# Altium footprint library PcbLib1.PcbLib: 16 footprints
Each footprint in its own frame and in the unit in brackets; x right, y up, seen from the top. Pads: shape width x height; smd on the part's side, far side on the other; paste and mask are expansions set on the pad; w line width, h text height; cw(c..) or ccw(c..) is an arc to the next point about the centre after c.
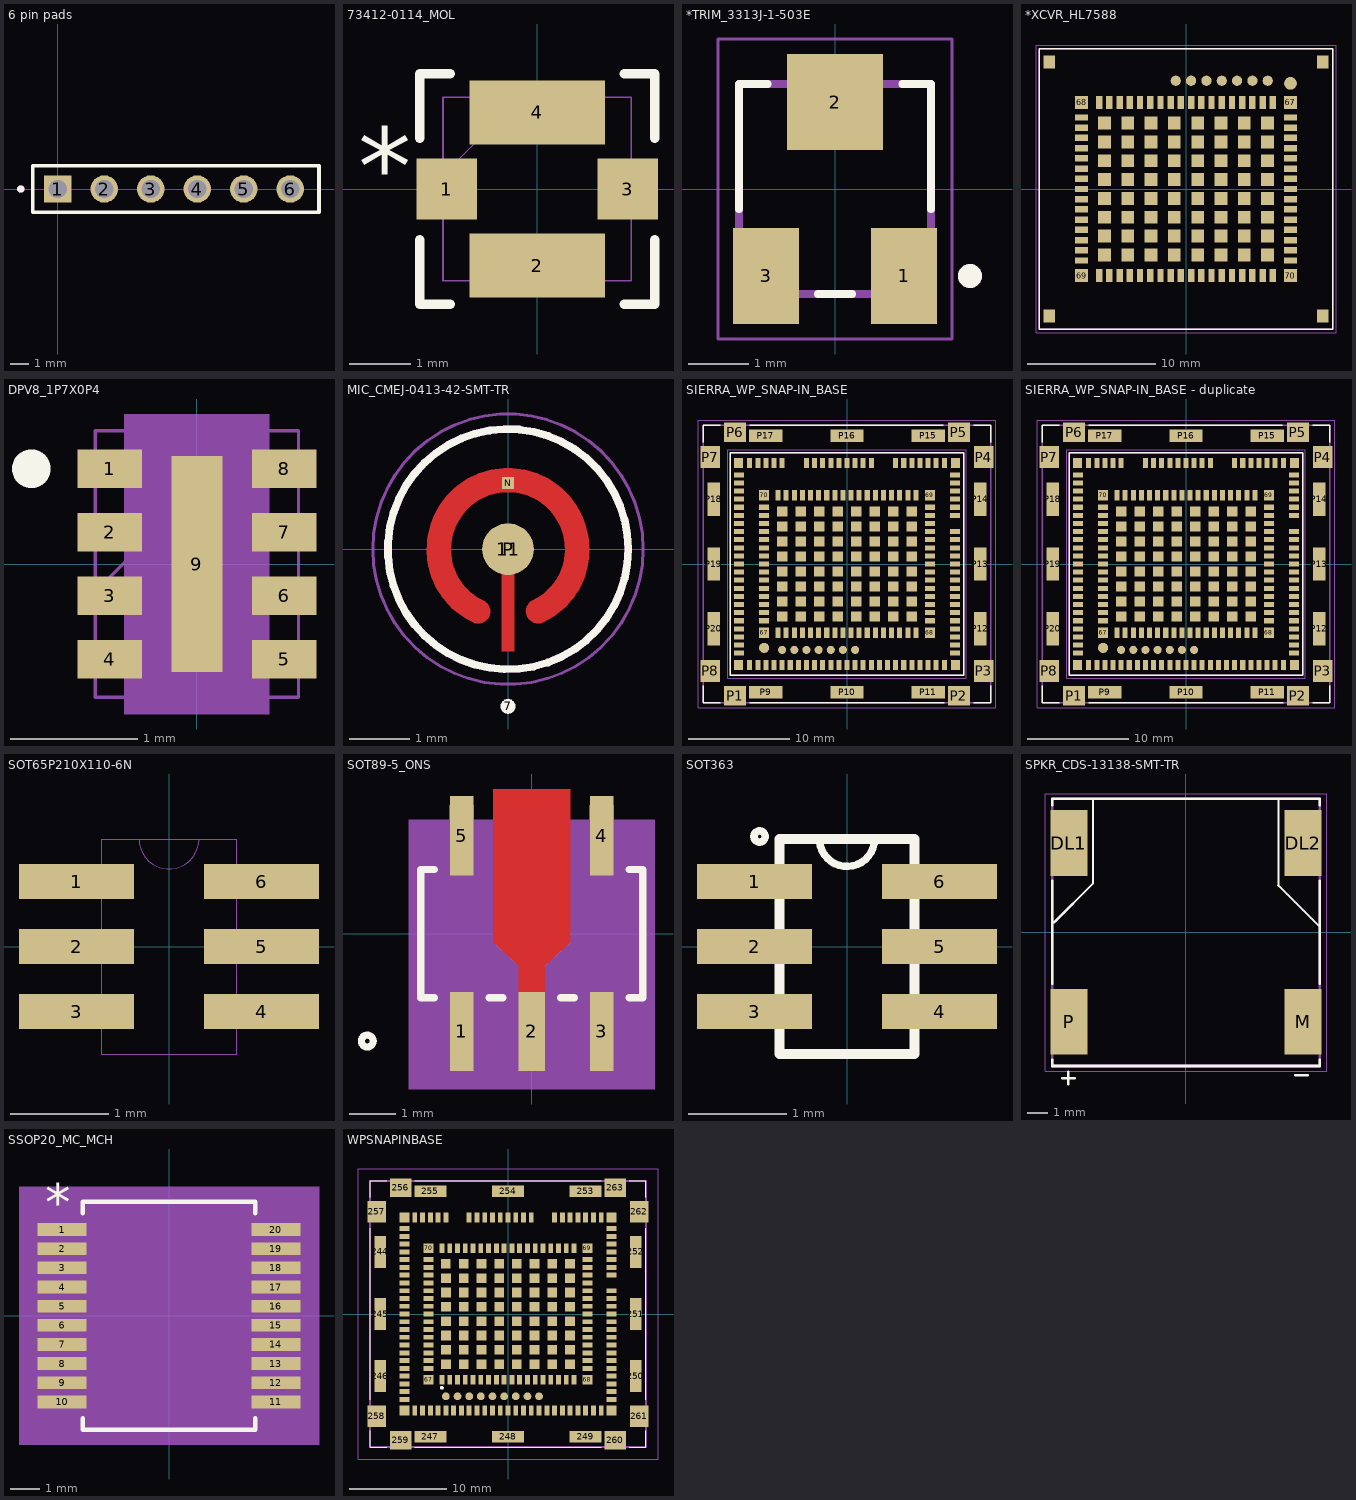
[diagram p0: the footprints below, top view; thin cyan lines are the x and y axes]

## 6 pin pads [mm]
pads (6):
  rect 1.5x1.5 hole 1: 1(0,0)
  round 1.5 hole 1: 2(2.54,0) 3(5.08,0) 4(7.62,0) 5(10.16,0) 6(12.7,0)
Top Overlay:
  circle w0.2: c-2.022,0 r0.1
  lines w0.2: -1.372,-1.27 14.275,-1.27 14.275,1.27 -1.372,1.27 -1.372,-1.27
Bottom Overlay:
  circle w0.2: c-2.022,0 r0.1
  lines w0.2: -1.372,-1.27 14.275,-1.27 14.275,1.27 -1.372,1.27 -1.372,-1.27
Mechanical 13:
  circle w0.2: c-2.022,0 r0.1
  lines w0.1: -1.372,-1.27 -1.372,1.27 14.275,1.27 14.275,-1.27 -1.372,-1.27
3D body "c-5-146280-2-d-3d.stp": height 8.18, standoff -3, extent 9.093,-1.168 13.767,1.168
3D body "c-5-146280-2-d-3d.stp": height 8.18, standoff -3, extent 4.013,-1.168 8.687,1.168
3D body "c-5-146280-2-d-3d.stp": height 8.18, standoff -3, extent -1.067,-1.168 3.607,1.168

## 73412-0114_MOL [mil]
pads (4):
  rect 39x39 smd paste-19.5 mask+0: 1(-58.07,0) 3(58.07,0)
  rect 87x41 smd paste+0 mask+0: 2(0,-49.21) 4(0,49.21)
Top Overlay:
  lines w6: -75.5,-32.6 -75.5,-74 -55.88,-74 ; -75.5,32.6 -75.5,74 -55.88,74 ; 55.88,-74 75.5,-74 75.5,-32.6 ; 55.88,74 75.5,74 75.5,32.6
  text "*" at -115.07,-10 h50
Mechanical 13:
  lines w1: -60.5,9 -10.5,59 ; -60.5,-59 60.5,-59 60.5,59 -60.5,59 -60.5,-59
  text "*" at -41.07,-25 h50
3D body: height 10, standoff 0, extent 0,0 10,10
3D body "A-1JB--3DModel-STEP-56544.STEP": height 49.21, standoff 0, extent -61.02,-59 61.02,59.11

## *TRIM_3313J-1-503E [mm]
pads (3):
  rect 1.1x1.6 smd: 1(1.15,-1.45) 3(-1.15,-1.45)
  rect 1.6x1.6 smd: 2(0,1.45)
Top Overlay:
  circle w0.2: c2.25,-1.45 r0.1
  lines w0.127: -1.6,-0.336 -1.6,1.75 -1.12,1.75 ; -0.286,-1.75 0.286,-1.75 ; 1.12,1.75 1.6,1.75 1.6,-0.336
Mechanical 4:
  circle w0.2: c2.25,-1.45 r0.1
  circle w0.2: c2.25,-1.45 r0.1
  lines w0.127: -1.6,-1.75 -1.6,1.75 ; -1.6,-1.75 1.6,-1.75 ; -1.6,-1.75 -1.6,1.75 ; -1.6,-1.75 1.6,-1.75 ; -1.6,1.75 1.6,1.75 ; -1.6,1.75 1.6,1.75 ; 1.6,-1.75 1.6,1.75 ; 1.6,-1.75 1.6,1.75
Mechanical 16:
  lines w0.05: -1.95,-2.5 1.95,-2.5 1.95,2.5 -1.95,2.5 -1.95,-2.5
3D body "trimmer.stp": height -0.41, standoff -2.54, extent -1.651,-1.778 1.651,1.727

## *XCVR_HL7588 [mm]
pads (146):
  rect 0.5x1 smd: 1(6.8,6.78) 2(6,6.78) 3(5.2,6.78) 4(4.4,6.78) 5(3.6,6.78) 6(2.8,6.78) 7(2,6.78) 8(1.2,6.78) 9(0.4,6.78) 10(-0.4,6.78) 11(-1.2,6.78) 12(-2,6.78) 13(-2.8,6.78) 14(-3.6,6.78) 15(-4.4,6.78) 16(-5.2,6.78) 17(-6,6.78) 18(-6.8,6.78) 34(-6.8,-6.78) 35(-6,-6.78) 36(-5.2,-6.78) 37(-4.4,-6.78) 38(-3.6,-6.78) 39(-2.8,-6.78) 40(-2,-6.78) 41(-1.2,-6.78) 42(-0.4,-6.78) 43(0.4,-6.78) 44(1.2,-6.78) 45(2,-6.78) 46(2.8,-6.78) 47(3.6,-6.78) 48(4.4,-6.78) 49(5.2,-6.78) 50(6,-6.78) 51(6.8,-6.78)
  rect 1x0.5 smd: 19(-8.18,5.6) 20(-8.18,4.8) 21(-8.18,4) 22(-8.18,3.2) 23(-8.18,2.4) 24(-8.18,1.6) 25(-8.18,0.8) 26(-8.18,0) 27(-8.18,-0.8) 28(-8.18,-1.6) 29(-8.18,-2.4) 30(-8.18,-3.2) 31(-8.18,-4) 32(-8.18,-4.8) 33(-8.18,-5.6) 52(8.18,-5.6) 53(8.18,-4.8) 54(8.18,-4) 55(8.18,-3.2) 56(8.18,-2.4) 57(8.18,-1.6) 58(8.18,-0.8) 59(8.18,0) 60(8.18,0.8) 61(8.18,1.6) 62(8.18,2.4) 63(8.18,3.2) 64(8.18,4) 65(8.18,4.8) 66(8.18,5.6)
  rect 1x1 smd: 67(8.18,6.78) 68(-8.18,6.78) 69(-8.18,-6.78) 70(8.18,-6.78) 171(6.388,5.162) 172(6.388,3.688) 173(6.388,2.213) 174(6.388,0.737) 175(6.388,-0.737) 176(6.388,-2.213) 177(6.388,-3.688) 178(6.388,-5.162) 179(4.563,-5.162) 180(2.738,-5.162) 181(0.913,-5.162) 182(-0.913,-5.162) 183(-2.738,-5.162) 184(-4.563,-5.162) 185(-6.388,-5.162) 186(-6.388,-3.688) 187(-6.388,-2.213) 188(-6.388,-0.737) 189(-6.388,0.737) 190(-6.388,2.213) 191(-6.388,3.688) 192(-6.388,5.162) 193(-4.563,5.162) 194(-2.738,5.162) 195(-0.913,5.162) 196(0.913,5.162) 197(2.738,5.162) 198(4.563,5.162) 199(4.563,3.688) 200(4.563,2.213) 201(4.563,0.737) 202(4.563,-0.737) 203(4.563,-2.213) 204(4.563,-3.688) 205(2.738,-3.688) 206(0.913,-3.688) 207(-0.913,-3.688) 208(-2.738,-3.688) 209(-4.563,-3.688) 210(-4.563,-2.213) 211(-4.563,-0.737) 212(-4.563,0.737) 213(-4.563,2.213) 214(-4.563,3.688) 215(-2.738,3.688) 216(-0.913,3.688) 217(0.913,3.688) 218(2.738,3.688) 219(2.738,2.213) 220(2.738,0.737) 221(2.738,-0.737) 222(2.738,-2.213) 223(0.913,-2.213) 224(-0.913,-2.213) 225(-2.738,-2.213) 226(-2.738,-0.737) 227(-2.738,0.737) 228(-2.738,2.213) 229(-0.913,2.213) 230(0.913,2.213) 231(0.913,0.737) 232(0.913,-0.737) 233(-0.913,-0.737) 234(-0.913,0.737)
  rect 0.9x1 smd: 167(10.7,9.95) 168(-10.7,9.95) 169(-10.7,-9.95) 170(10.7,-9.95)
  round 0.8 smd: 236(6.4,8.48) 237(5.2,8.48) 238(4,8.48) 239(2.8,8.48) 240(1.6,8.48) 241(0.4,8.48) 242(-0.8,8.48)
  round 1 smd: PM1(8.18,8.275)
Top Overlay:
  lines w0.127: -11.5,-11 11.5,-11 11.5,11 -11.5,11 -11.5,-11
Top Paste:
  drawing of 289 lines, arcs and shapes, not listed
Mechanical 4:
  lines w0.127: -11.5,-11 11.5,-11 ; -11.5,-11 -11.5,11 ; -11.5,-11 11.5,-11 ; -11.5,-11 -11.5,11 ; -11.5,11 11.5,11 ; -11.5,11 11.5,11 ; 11.5,-11 11.5,11 ; 11.5,-11 11.5,11
Mechanical 16:
  lines w0.05: -11.75,-11.25 11.75,-11.25 11.75,11.25 -11.75,11.25 -11.75,-11.25

## DPV8_1P7X0P4 [mm]
pads (9):
  rect 0.508x0.3 smd paste+0 mask+0: 1(-0.686,0.75) 2(-0.686,0.25) 3(-0.686,-0.25) 4(-0.686,-0.75) 5(0.686,-0.75) 6(0.686,-0.25) 7(0.686,0.25) 8(0.686,0.75)
  rect 0.4x1.7 smd paste+0 mask+0: 9(0,0)
Top Overlay:
  circle w0.152: c-1.304,0.75 r0.076
Mechanical 5:
  region: -0.571,1.181 0.571,1.181 0.571,-1.181 -0.571,-1.181
Mechanical 13:
  circle w0: c-0.674,0.75 r0.076
  lines w0.025: -0.8,-0.22 0.47,1.05 ; -0.8,-1.05 0.8,-1.05 0.8,1.05 -0.8,1.05 -0.8,-1.05
3D body: height 0.25, standoff 0, extent 0,0 0.254,0.254
3D body "DPV8_1P7X0P4.step": height 0.65, standoff 0, extent -0.851,-1.05 0.851,1.05

## MIC_CMEJ-0413-42-SMT-TR [mm]
pads (4):
  round 0.254 on Top Overlay: 7(0,-2.616)
  round 0.864 on Top Solder: 11(0,0)
  rect 0.2x0.2 smd paste-1 mask+0: N(0,1.1)
  round 0.86 smd mask+0: P(0,0)
Top Layer:
  region: 0.1,-1.7 -0.1,-1.7 -0.1,0 0.1,0
  region: 304 vertices and 0 holes, not listed, extent -1.35,-1.237 1.35,1.35
Top Overlay:
  circle w0.127: c0,0 r2
Top Paste:
  drawing of 4 lines, arcs and shapes, not listed
Top Solder:
  drawing of 5 lines, arcs and shapes, not listed
Mechanical 13:
  circle w0.127: c0,0 r2
Mechanical 15:
  circle w0.05: c0,0 r2.25
3D body "CUI_DEVICES_CMEJ-0413-42-SMT-TR.step": height 1.35, standoff -0.02, extent -2,-1.974 2,2.026

## PCBComponent_1 [mm]

## PCBComponent_1 - duplicate [mm]

## SIERRA_WP_SNAP-IN_BASE [mm]
pads (257):
  rect 0.5x1 smd paste-1: 1(-6.8,-6.78) 2(-6,-6.78) 3(-5.2,-6.78) 4(-4.4,-6.78) 5(-3.6,-6.78) 6(-2.8,-6.78) 7(-2,-6.78) 8(-1.2,-6.78) 9(-0.4,-6.78) 10(0.4,-6.78) 11(1.2,-6.78) 12(2,-6.78) 13(2.8,-6.78) 14(3.6,-6.78) 15(4.4,-6.78) 16(5.2,-6.78) 17(6,-6.78) 18(6.8,-6.78) 34(6.8,6.78) 35(6,6.78) 36(5.2,6.78) 37(4.4,6.78) 38(3.6,6.78) 39(2.8,6.78) 40(2,6.78) 41(1.2,6.78) 42(0.4,6.78) 43(-0.4,6.78) 44(-1.2,6.78) 45(-2,6.78) 46(-2.8,6.78) 47(-3.6,6.78) 48(-4.4,6.78) 49(-5.2,6.78) 50(-6,6.78) 51(-6.8,6.78) 71(-9.6,-9.95) 72(-8.8,-9.95) 73(-8,-9.95) 74(-7.2,-9.95) 75(-6.4,-9.95) 76(-5.6,-9.95) 77(-4.8,-9.95) 78(-4,-9.95) 79(-3.2,-9.95) 80(-2.4,-9.95) 81(-1.6,-9.95) 82(-0.8,-9.95) 83(0,-9.95) 84(0.8,-9.95) 85(1.6,-9.95) 86(2.4,-9.95) 87(3.2,-9.95) 88(4,-9.95) 89(4.8,-9.95) 90(5.6,-9.95) 91(6.4,-9.95) 92(7.2,-9.95) 93(8,-9.95) 94(8.8,-9.95) 95(9.6,-9.95) 119(9.6,9.95) 120(8.8,9.95) 121(8,9.95) 122(7.2,9.95) 123(6.4,9.95) 124(5.6,9.95) 125(4.8,9.95) 128(2.4,9.95) 129(1.6,9.95) 130(0.8,9.95) 131(0,9.95) 132(-0.8,9.95) 133(-1.6,9.95) 134(-2.4,9.95) 135(-3.2,9.95) 136(-4,9.95) 139(-6.4,9.95) 140(-7.2,9.95) 141(-8,9.95) 142(-8.8,9.95) 143(-9.6,9.95)
  rect 1x0.5 smd paste-1: 19(8.18,-5.6) 20(8.18,-4.8) 21(8.18,-4) 22(8.18,-3.2) 23(8.18,-2.4) 24(8.18,-1.6) 25(8.18,-0.8) 26(8.18,0) 27(8.18,0.8) 28(8.18,1.6) 29(8.18,2.4) 30(8.18,3.2) 31(8.18,4) 32(8.18,4.8) 33(8.18,5.6) 52(-8.18,5.6) 53(-8.18,4.8) 54(-8.18,4) 55(-8.18,3.2) 56(-8.18,2.4) 57(-8.18,1.6) 58(-8.18,0.8) 59(-8.18,0) 60(-8.18,-0.8) 61(-8.18,-1.6) 62(-8.18,-2.4) 63(-8.18,-3.2) 64(-8.18,-4) 65(-8.18,-4.8) 66(-8.18,-5.6) 96(10.65,-8.8) 97(10.65,-8) 98(10.65,-7.2) 99(10.65,-6.4) 100(10.65,-5.6) 101(10.65,-4.8) 102(10.65,-4) 103(10.65,-3.2) 104(10.65,-2.4) 105(10.65,-1.6) 106(10.65,-0.8) 107(10.65,0) 108(10.65,0.8) 109(10.65,1.6) 110(10.65,2.4) 111(10.65,3.2) 113(10.65,4.8) 114(10.65,5.6) 115(10.65,6.4) 116(10.65,7.2) 117(10.65,8) 118(10.65,8.8) 144(-10.65,8.8) 145(-10.65,8) 146(-10.65,7.2) 147(-10.65,6.4) 148(-10.65,5.6) 149(-10.65,4.8) 150(-10.65,4) 151(-10.65,3.2) 152(-10.65,2.4) 153(-10.65,1.6) 154(-10.65,0.8) 155(-10.65,0) 156(-10.65,-0.8) 157(-10.65,-1.6) 158(-10.65,-2.4) 159(-10.65,-3.2) 160(-10.65,-4) 161(-10.65,-4.8) 162(-10.65,-5.6) 163(-10.65,-6.4) 164(-10.65,-7.2) 165(-10.65,-8) 166(-10.65,-8.8)
  rect 1x1 smd paste-1: 67(-8.18,-6.78) 68(8.18,-6.78) 69(8.18,6.78) 70(-8.18,6.78) 171(-6.388,-5.162) 172(-6.388,-3.688) 173(-6.388,-2.213) 174(-6.388,-0.737) 175(-6.388,0.737) 176(-6.388,2.213) 177(-6.388,3.688) 178(-6.388,5.162) 179(-4.563,5.162) 180(-2.738,5.162) 181(-0.913,5.162) 182(0.913,5.162) 183(2.738,5.162) 184(4.563,5.162) 185(6.388,5.162) 186(6.388,3.688) 187(6.388,2.213) 188(6.388,0.737) 189(6.388,-0.737) 190(6.388,-2.213) 191(6.388,-3.688) 192(6.388,-5.162) 193(4.563,-5.162) 194(2.738,-5.162) 195(0.913,-5.162) 196(-0.913,-5.162) 197(-2.738,-5.162) 198(-4.563,-5.162) 199(-4.563,-3.688) 200(-4.563,-2.213) 201(-4.563,-0.737) 202(-4.563,0.737) 203(-4.563,2.213) 204(-4.563,3.688) 205(-2.738,3.688) 206(-0.913,3.688) 207(0.913,3.688) 208(2.738,3.688) 209(4.563,3.688) 210(4.563,2.213) 211(4.563,0.737) 212(4.563,-0.737) 213(4.563,-2.213) 214(4.563,-3.688) 215(2.738,-3.688) 216(0.913,-3.688) 217(-0.913,-3.688) 218(-2.738,-3.688) 219(-2.738,-2.213) 220(-2.738,-0.737) 221(-2.738,0.737) 222(-2.738,2.213) 223(-0.913,2.213) 224(0.913,2.213) 225(2.738,2.213) 226(2.738,0.737) 227(2.738,-0.737) 228(2.738,-2.213) 229(0.913,-2.213) 230(-0.913,-2.213) 231(-0.913,-0.737) 232(-0.913,0.737) 233(0.913,0.737) 234(0.913,-0.737)
  rect 0.9x1 smd paste-1: 167(-10.7,-9.95) 168(10.7,-9.95) 169(10.7,9.95) 170(-10.7,9.95)
  round 0.8 smd paste-1: 236(-6.4,-8.48) 237(-5.2,-8.48) 238(-4,-8.48) 239(-2.8,-8.48) 240(-1.6,-8.48) 241(-0.4,-8.48) 242(0.8,-8.48)
  rect 2.2x1.9 smd paste-2: P1(-11.05,-13) P2(11.05,-13) P5(11.05,13) P6(-11.05,13)
  rect 1.9x2.2 smd paste-2: P3(13.5,-10.55) P4(13.5,10.55) P7(-13.5,10.55) P8(-13.5,-10.55)
  rect 3.3x1.2 smd paste-3: P9(-8,-12.65) P10(0,-12.65) P11(8,-12.65) P15(8,12.65) P16(0,12.65) P17(-8,12.65)
  rect 1.2x3.3 smd paste-3: P12(13.15,-6.4) P13(13.15,0) P14(13.15,6.4) P18(-13.15,6.4) P19(-13.15,0) P20(-13.15,-6.4)
  round 1 smd paste-1: PM1(-8.18,-8.275)
Top Overlay:
  lines w0.127: -14.2,-12 -14.2,-13.7 -12.5,-13.7 ; -14.2,12 -14.2,13.7 -12.5,13.7 ; -9.6,-13.7 9.6,-13.7 ; -9.6,13.7 9.5,13.7 ; 12.5,-13.7 14.2,-13.7 14.2,-12 ; 12.5,13.7 14.2,13.7 14.2,12 ; -11.5,-11 11.5,-11 11.5,11 -11.5,11 -11.5,-11
Top Paste:
  drawing of 227 lines, arcs and shapes, not listed
Mechanical 13:
  lines w0.127: -14.2,-13.7 -14.2,13.7 14.2,13.7 14.2,-13.7 -14.2,-13.7 ; -11.5,-11 11.5,-11 11.5,11 -11.5,11 -11.5,-11
Mechanical 15:
  lines w0.05: -14.7,-14.2 14.7,-14.2 14.7,14.2 -14.7,14.2 -14.7,-14.2 ; -11.75,-11.25 11.75,-11.25 11.75,11.25 -11.75,11.25 -11.75,-11.25
3D body "snap_in_for_wp_4.4mm_module.stp": height 6.88, standoff 0, extent -14.174,-13.725 14.226,13.675

## SIERRA_WP_SNAP-IN_BASE - duplicate [mm]
pads (257):
  rect 0.5x1 smd paste-1: 1(-6.8,-6.78) 2(-6,-6.78) 3(-5.2,-6.78) 4(-4.4,-6.78) 5(-3.6,-6.78) 6(-2.8,-6.78) 7(-2,-6.78) 8(-1.2,-6.78) 9(-0.4,-6.78) 10(0.4,-6.78) 11(1.2,-6.78) 12(2,-6.78) 13(2.8,-6.78) 14(3.6,-6.78) 15(4.4,-6.78) 16(5.2,-6.78) 17(6,-6.78) 18(6.8,-6.78) 34(6.8,6.78) 35(6,6.78) 36(5.2,6.78) 37(4.4,6.78) 38(3.6,6.78) 39(2.8,6.78) 40(2,6.78) 41(1.2,6.78) 42(0.4,6.78) 43(-0.4,6.78) 44(-1.2,6.78) 45(-2,6.78) 46(-2.8,6.78) 47(-3.6,6.78) 48(-4.4,6.78) 49(-5.2,6.78) 50(-6,6.78) 51(-6.8,6.78) 71(-9.6,-9.95) 72(-8.8,-9.95) 73(-8,-9.95) 74(-7.2,-9.95) 75(-6.4,-9.95) 76(-5.6,-9.95) 77(-4.8,-9.95) 78(-4,-9.95) 79(-3.2,-9.95) 80(-2.4,-9.95) 81(-1.6,-9.95) 82(-0.8,-9.95) 83(0,-9.95) 84(0.8,-9.95) 85(1.6,-9.95) 86(2.4,-9.95) 87(3.2,-9.95) 88(4,-9.95) 89(4.8,-9.95) 90(5.6,-9.95) 91(6.4,-9.95) 92(7.2,-9.95) 93(8,-9.95) 94(8.8,-9.95) 95(9.6,-9.95) 119(9.6,9.95) 120(8.8,9.95) 121(8,9.95) 122(7.2,9.95) 123(6.4,9.95) 124(5.6,9.95) 125(4.8,9.95) 128(2.4,9.95) 129(1.6,9.95) 130(0.8,9.95) 131(0,9.95) 132(-0.8,9.95) 133(-1.6,9.95) 134(-2.4,9.95) 135(-3.2,9.95) 136(-4,9.95) 139(-6.4,9.95) 140(-7.2,9.95) 141(-8,9.95) 142(-8.8,9.95) 143(-9.6,9.95)
  rect 1x0.5 smd paste-1: 19(8.18,-5.6) 20(8.18,-4.8) 21(8.18,-4) 22(8.18,-3.2) 23(8.18,-2.4) 24(8.18,-1.6) 25(8.18,-0.8) 26(8.18,0) 27(8.18,0.8) 28(8.18,1.6) 29(8.18,2.4) 30(8.18,3.2) 31(8.18,4) 32(8.18,4.8) 33(8.18,5.6) 52(-8.18,5.6) 53(-8.18,4.8) 54(-8.18,4) 55(-8.18,3.2) 56(-8.18,2.4) 57(-8.18,1.6) 58(-8.18,0.8) 59(-8.18,0) 60(-8.18,-0.8) 61(-8.18,-1.6) 62(-8.18,-2.4) 63(-8.18,-3.2) 64(-8.18,-4) 65(-8.18,-4.8) 66(-8.18,-5.6) 96(10.65,-8.8) 97(10.65,-8) 98(10.65,-7.2) 99(10.65,-6.4) 100(10.65,-5.6) 101(10.65,-4.8) 102(10.65,-4) 103(10.65,-3.2) 104(10.65,-2.4) 105(10.65,-1.6) 106(10.65,-0.8) 107(10.65,0) 108(10.65,0.8) 109(10.65,1.6) 110(10.65,2.4) 111(10.65,3.2) 113(10.65,4.8) 114(10.65,5.6) 115(10.65,6.4) 116(10.65,7.2) 117(10.65,8) 118(10.65,8.8) 144(-10.65,8.8) 145(-10.65,8) 146(-10.65,7.2) 147(-10.65,6.4) 148(-10.65,5.6) 149(-10.65,4.8) 150(-10.65,4) 151(-10.65,3.2) 152(-10.65,2.4) 153(-10.65,1.6) 154(-10.65,0.8) 155(-10.65,0) 156(-10.65,-0.8) 157(-10.65,-1.6) 158(-10.65,-2.4) 159(-10.65,-3.2) 160(-10.65,-4) 161(-10.65,-4.8) 162(-10.65,-5.6) 163(-10.65,-6.4) 164(-10.65,-7.2) 165(-10.65,-8) 166(-10.65,-8.8)
  rect 1x1 smd paste-1: 67(-8.18,-6.78) 68(8.18,-6.78) 69(8.18,6.78) 70(-8.18,6.78) 171(-6.388,-5.162) 172(-6.388,-3.688) 173(-6.388,-2.213) 174(-6.388,-0.737) 175(-6.388,0.737) 176(-6.388,2.213) 177(-6.388,3.688) 178(-6.388,5.162) 179(-4.563,5.162) 180(-2.738,5.162) 181(-0.913,5.162) 182(0.913,5.162) 183(2.738,5.162) 184(4.563,5.162) 185(6.388,5.162) 186(6.388,3.688) 187(6.388,2.213) 188(6.388,0.737) 189(6.388,-0.737) 190(6.388,-2.213) 191(6.388,-3.688) 192(6.388,-5.162) 193(4.563,-5.162) 194(2.738,-5.162) 195(0.913,-5.162) 196(-0.913,-5.162) 197(-2.738,-5.162) 198(-4.563,-5.162) 199(-4.563,-3.688) 200(-4.563,-2.213) 201(-4.563,-0.737) 202(-4.563,0.737) 203(-4.563,2.213) 204(-4.563,3.688) 205(-2.738,3.688) 206(-0.913,3.688) 207(0.913,3.688) 208(2.738,3.688) 209(4.563,3.688) 210(4.563,2.213) 211(4.563,0.737) 212(4.563,-0.737) 213(4.563,-2.213) 214(4.563,-3.688) 215(2.738,-3.688) 216(0.913,-3.688) 217(-0.913,-3.688) 218(-2.738,-3.688) 219(-2.738,-2.213) 220(-2.738,-0.737) 221(-2.738,0.737) 222(-2.738,2.213) 223(-0.913,2.213) 224(0.913,2.213) 225(2.738,2.213) 226(2.738,0.737) 227(2.738,-0.737) 228(2.738,-2.213) 229(0.913,-2.213) 230(-0.913,-2.213) 231(-0.913,-0.737) 232(-0.913,0.737) 233(0.913,0.737) 234(0.913,-0.737)
  rect 0.9x1 smd paste-1: 167(-10.7,-9.95) 168(10.7,-9.95) 169(10.7,9.95) 170(-10.7,9.95)
  round 0.8 smd paste-1: 236(-6.4,-8.48) 237(-5.2,-8.48) 238(-4,-8.48) 239(-2.8,-8.48) 240(-1.6,-8.48) 241(-0.4,-8.48) 242(0.8,-8.48)
  rect 2.2x1.9 smd paste-2: P1(-11.05,-13) P2(11.05,-13) P5(11.05,13) P6(-11.05,13)
  rect 1.9x2.2 smd paste-2: P3(13.5,-10.55) P4(13.5,10.55) P7(-13.5,10.55) P8(-13.5,-10.55)
  rect 3.3x1.2 smd paste-3: P9(-8,-12.65) P10(0,-12.65) P11(8,-12.65) P15(8,12.65) P16(0,12.65) P17(-8,12.65)
  rect 1.2x3.3 smd paste-3: P12(13.15,-6.4) P13(13.15,0) P14(13.15,6.4) P18(-13.15,6.4) P19(-13.15,0) P20(-13.15,-6.4)
  round 1 smd paste-1: PM1(-8.18,-8.275)
Top Overlay:
  lines w0.127: -14.2,-12 -14.2,-13.7 -12.5,-13.7 ; -14.2,12 -14.2,13.7 -12.5,13.7 ; -9.6,-13.7 9.6,-13.7 ; -9.6,13.7 9.5,13.7 ; 12.5,-13.7 14.2,-13.7 14.2,-12 ; 12.5,13.7 14.2,13.7 14.2,12 ; -11.5,-11 -11.5,11 11.5,11 11.5,-11 -11.5,-11
Top Paste:
  drawing of 227 lines, arcs and shapes, not listed
Mechanical 13:
  lines w0.127: -14.2,-13.7 14.2,-13.7 14.2,13.7 -14.2,13.7 -14.2,-13.7 ; -11.5,-11 -11.5,11 11.5,11 11.5,-11 -11.5,-11
Mechanical 15:
  lines w0.05: -14.7,-14.2 -14.7,14.2 14.7,14.2 14.7,-14.2 -14.7,-14.2 ; -11.75,-11.25 -11.75,11.25 11.75,11.25 11.75,-11.25 -11.75,-11.25
3D body "WP_SNAP-IN_BASE.stp": height 4.1, standoff 0, extent -14.225,-13.725 14.175,13.675

## SOT65P210X110-6N [mil]
pads (6):
  rect 46x14 smd: 1(-37,26) 2(-37,0) 3(-37,-26) 4(37,-26) 5(37,0) 6(37,26)
Mechanical 13:
  lines w0: -27,-31 -43,-31 -43,-20 -27,-20 ; -27,-31 -27,-43 27,-43 27,-31 ; -27,-31 -27,-20 ; -27,-20 -27,-6 ; -27,-6 -43,-6 -43,6 -27,6 ; -27,-6 -27,6 ; -27,6 -27,20 ; -27,20 -43,20 -43,31 -27,31 ; -27,20 -27,31 ; -27,31 -27,43 -12,43 ; -12,43 ccw(c0,43) 12,43 ; -12,43 12,43 ; 12,43 27,43 27,31 ; 27,-31 43,-31 43,-20 27,-20 ; 27,-31 27,-20 ; 27,-20 27,-6 ; 27,-6 43,-6 43,6 27,6 ; 27,-6 27,6 ; 27,6 27,20 ; 27,20 43,20 43,31 27,31 ; 27,20 27,31

## SOT89-5_ONS [mil]
pads (5):
  rect 20x66.87 smd paste+0 mask+0: 1(-59.06,-82.44) 3(59.06,-82.44) 4(59.06,82.44) 5(-59.06,82.44)
  rect 22x66.87 smd paste+0 mask+0: 2(0,-82.44)
Top Layer:
  region: 11,-49 -11,-49 -11,-27 -32.48,-7.48 -32.48,121.78 -10.98,121.78 10.98,121.78 32.48,121.78 32.48,-7.48 11,-27
Top Overlay:
  circle w6: c-138.5,-90.5 r5
  lines w6: -82.16,-54 -93.5,-54 -93.5,54 -82.16,54 ; -35.96,-54 -24.1,-54 ; 24.1,-54 35.96,-54 ; 82.16,-54 93.5,-54 93.5,54 82.16,54
Top Paste:
  region: 11,-49 -11,-49 -11,-27 -32.48,-7.48 -32.48,121.78 -10.98,121.78 10.98,121.78 32.48,121.78 32.48,-7.48 11,-27
Top Solder:
  region: 11,-49 -11,-49 -11,-27 -32.48,-7.48 -32.48,121.78 -10.98,121.78 10.98,121.78 32.48,121.78 32.48,-7.48 11,-27
Mechanical 5:
  region: -103.5,95.87 103.5,95.87 103.5,-130.87 -103.5,-130.87
Mechanical 13:
  circle w0: c-78.5,-39 r5
  lines w1: -88.5,-49 88.5,-49 88.5,49 -88.5,49 -88.5,-49 ; -69.06,-108 -69.06,-49 -49.06,-49 -49.06,-108 -69.06,-108 ; -69.06,49 -49.06,49 -49.06,108 -69.06,108 -69.06,49 ; -11,-108 -11,-49 11,-49 11,-108 -11,-108 ; 49.06,-108 49.06,-49 69.06,-49 69.06,-108 49.06,-108 ; 49.06,49 69.06,49 69.06,108 49.06,108 49.06,49
3D body: height 10, standoff 0, extent 0,0 10,10
3D body "SOT89-5_ONS.step": height 65.12, standoff 0, extent -88.5,-107.99 88.51,108

## SOT363 [mil]
pads (6):
  rect 46x14 smd: 1(-37,26) 2(-37,0) 3(-37,-26) 4(37,-26) 5(37,0) 6(37,26)
Top Overlay:
  circle w3: c-35,44 r2.24
  lines w3: -10.95,42 ccw(c0,43) 11,43
  lines w3.94: -27,-43 -27,43 27,43 27,-43 -27,-43
Mechanical 13:
  lines w0: -27,-31 -27,-20 ; -27,-31 -27,-43 27,-43 27,-31 ; -27,-31 -43,-31 -43,-20 -27,-20 ; -27,-20 -27,-6 ; -27,-6 -27,6 ; -27,-6 -43,-6 -43,6 -27,6 ; -27,6 -27,20 ; -27,20 -27,31 ; -27,20 -43,20 -43,31 -27,31 ; -27,31 -27,43 -12,43 ; -12,43 ccw(c0,43) 12,43 ; -12,43 12,43 ; 12,43 27,43 27,31 ; 27,-31 27,-20 ; 27,-31 43,-31 43,-20 27,-20 ; 27,-20 27,-6 ; 27,-6 27,6 ; 27,-6 43,-6 43,6 27,6 ; 27,6 27,20 ; 27,20 27,31 ; 27,20 43,20 43,31 27,31
3D body "NTJD4001NT1G--3DModel-STEP-56544.STEP": height 39.37, standoff -3.94, extent -41.33,-39.36 41.34,39.38

## SPKR_CDS-13138-SMT-TR [mm]
pads (4):
  rect 1.8x3.2 smd: DL1(-5.7,4.35) DL2(5.7,4.35) M(5.7,-4.35) P(-5.7,-4.35)
Top Overlay:
  lines w0.1: -6.426,0.483 -4.521,2.388 -4.521,6.502 ; 4.47,2.286 4.496,2.286 6.502,0.279 ; 4.496,2.261 4.496,2.464 ; 4.496,2.438 4.496,6.502
  lines w0.127: -6.5,-6.2 -6.5,-6.5 6.5,-6.5 6.5,-6.2 ; -6.5,-2.5 -6.5,2.5 ; -6.5,6.2 -6.5,6.5 6.5,6.5 6.5,6.2 ; -6.025,-7.091 -5.425,-7.091 ; -5.725,-7.391 -5.725,-6.791 ; 5.318,-6.96 5.918,-6.96 ; 6.5,-2.5 6.5,2.5
Mechanical 13:
  lines w0.127: -6.5,-6.5 6.5,-6.5 6.5,6.5 -6.5,6.5 -6.5,-6.5
Mechanical 15:
  lines w0.05: -6.85,-6.75 6.85,-6.75 6.85,6.75 -6.85,6.75 -6.85,-6.75
3D body "Speaker.step": height 4, standoff -0.01, extent -6.551,-6.475 6.449,6.525

## SSOP20_MC_MCH [mil]
pads (20):
  rect 65x17 smd paste+0 mask+0: 1(-143,115.16) 2(-143,89.57) 3(-143,63.98) 4(-143,38.39) 5(-143,12.8) 6(-143,-12.8) 7(-143,-38.39) 8(-143,-63.98) 9(-143,-89.57) 10(-143,-115.16) 11(143,-115.16) 12(143,-89.57) 13(143,-63.98) 14(143,-38.39) 15(143,-12.8) 16(143,12.8) 17(143,38.39) 18(143,63.98) 19(143,89.57) 20(143,115.16)
Top Overlay:
  lines w6: -115,-136.76 -115,-152.5 115,-152.5 115,-136.76 ; -115,136.76 -115,152.5 115,152.5 115,136.76
  text "*" at -165.5,127.16 h50
Mechanical 5:
  region: 200.5,-172.5 -200.5,-172.5 -200.5,172.5 200.5,172.5
Mechanical 13:
  lines w0: -12,147.5 ccw(c0,147.5) 12,147.5
  lines w1: -161.5,-122.66 -161.5,-107.66 -110,-107.66 -110,-122.66 -161.5,-122.66 ; -161.5,-97.07 -161.5,-82.07 -110,-82.07 -110,-97.07 -161.5,-97.07 ; -161.5,-71.48 -161.5,-56.48 -110,-56.48 -110,-71.48 -161.5,-71.48 ; -161.5,-45.89 -161.5,-30.89 -110,-30.89 -110,-45.89 -161.5,-45.89 ; -161.5,-20.3 -161.5,-5.3 -110,-5.3 -110,-20.3 -161.5,-20.3 ; -161.5,5.3 -161.5,20.3 -110,20.3 -110,5.3 -161.5,5.3 ; -161.5,30.89 -161.5,45.89 -110,45.89 -110,30.89 -161.5,30.89 ; -161.5,56.48 -161.5,71.48 -110,71.48 -110,56.48 -161.5,56.48 ; -161.5,82.07 -161.5,97.07 -110,97.07 -110,82.07 -161.5,82.07 ; -161.5,107.66 -161.5,122.66 -110,122.66 -110,107.66 -161.5,107.66 ; -110,-147.5 110,-147.5 110,147.5 -110,147.5 -110,-147.5 ; 110,-122.66 110,-107.66 161.5,-107.66 161.5,-122.66 110,-122.66 ; 110,-97.07 110,-82.07 161.5,-82.07 161.5,-97.07 110,-97.07 ; 110,-71.48 110,-56.48 161.5,-56.48 161.5,-71.48 110,-71.48 ; 110,-45.89 110,-30.89 161.5,-30.89 161.5,-45.89 110,-45.89 ; 110,-20.3 110,-5.3 161.5,-5.3 161.5,-20.3 110,-20.3 ; 110,5.3 110,20.3 161.5,20.3 161.5,5.3 110,5.3 ; 110,30.89 110,45.89 161.5,45.89 161.5,30.89 110,30.89 ; 110,56.48 110,71.48 161.5,71.48 161.5,56.48 110,56.48 ; 110,82.07 110,97.07 161.5,97.07 161.5,82.07 110,82.07 ; 110,107.66 110,122.66 161.5,122.66 161.5,107.66 110,107.66
  text "*" at -107.5,94.5 h50
3D body: height 10, standoff 0, extent 0,0 10,10
3D body "SSOP20_MC_MCH.step": height 79.09, standoff 0, extent -161.49,-146.47 161.51,148.49

## WPSNAPINBASE [mm]
pads (258):
  rect 0.5x1 smd: 1(-6.8,-6.78) 2(-6,-6.78) 3(-5.2,-6.78) 4(-4.4,-6.78) 5(-3.6,-6.78) 6(-2.8,-6.78) 7(-2,-6.78) 8(-1.2,-6.78) 9(-0.4,-6.78) 10(0.4,-6.78) 11(1.2,-6.78) 12(2,-6.78) 13(2.8,-6.78) 14(3.6,-6.78) 15(4.4,-6.78) 16(5.2,-6.78) 17(6,-6.78) 18(6.8,-6.78) 34(6.8,6.78) 35(6,6.78) 36(5.2,6.78) 37(4.4,6.78) 38(3.6,6.78) 39(2.8,6.78) 40(2,6.78) 41(1.2,6.78) 42(0.4,6.78) 43(-0.4,6.78) 44(-1.2,6.78) 45(-2,6.78) 46(-2.8,6.78) 47(-3.6,6.78) 48(-4.4,6.78) 49(-5.2,6.78) 50(-6,6.78) 51(-6.8,6.78) 71(-9.6,-9.95) 72(-8.8,-9.95) 73(-8,-9.95) 74(-7.2,-9.95) 75(-6.4,-9.95) 76(-5.6,-9.95) 77(-4.8,-9.95) 78(-4,-9.95) 79(-3.2,-9.95) 80(-2.4,-9.95) 81(-1.6,-9.95) 82(-0.8,-9.95) 83(0,-9.95) 84(0.8,-9.95) 85(1.6,-9.95) 86(2.4,-9.95) 87(3.2,-9.95) 88(4,-9.95) 89(4.8,-9.95) 90(5.6,-9.95) 91(6.4,-9.95) 92(7.2,-9.95) 93(8,-9.95) 94(8.8,-9.95) 95(9.6,-9.95) 119(9.6,9.95) 120(8.8,9.95) 121(8,9.95) 122(7.2,9.95) 123(6.4,9.95) 124(5.6,9.95) 125(4.8,9.95) 128(2.4,9.95) 129(1.6,9.95) 130(0.8,9.95) 131(0,9.95) 132(-0.8,9.95) 133(-1.6,9.95) 134(-2.4,9.95) 135(-3.2,9.95) 136(-4,9.95) 139(-6.4,9.95) 140(-7.2,9.95) 141(-8,9.95) 142(-8.8,9.95) 143(-9.6,9.95)
  rect 1x0.5 smd: 19(8.18,-5.6) 20(8.18,-4.8) 21(8.18,-4) 22(8.18,-3.2) 23(8.18,-2.4) 24(8.18,-1.6) 25(8.18,-0.8) 26(8.18,0) 27(8.18,0.8) 28(8.18,1.6) 29(8.18,2.4) 30(8.18,3.2) 31(8.18,4) 32(8.18,4.8) 33(8.18,5.6) 52(-8.18,5.6) 53(-8.18,4.8) 54(-8.18,4) 55(-8.18,3.2) 56(-8.18,2.4) 57(-8.18,1.6) 58(-8.18,0.8) 59(-8.18,0) 60(-8.18,-0.8) 61(-8.18,-1.6) 62(-8.18,-2.4) 63(-8.18,-3.2) 64(-8.18,-4) 65(-8.18,-4.8) 66(-8.18,-5.6) 96(10.65,-8.8) 97(10.65,-8) 98(10.65,-7.2) 99(10.65,-6.4) 100(10.65,-5.6) 101(10.65,-4.8) 102(10.65,-4) 103(10.65,-3.2) 104(10.65,-2.4) 105(10.65,-1.6) 106(10.65,-0.8) 107(10.65,0) 108(10.65,0.8) 109(10.65,1.6) 110(10.65,2.4) 111(10.65,4) 113(10.65,4.8) 114(10.65,5.6) 115(10.65,6.4) 116(10.65,7.2) 117(10.65,8) 118(10.65,8.8) 144(-10.65,8.8) 145(-10.65,8) 146(-10.65,7.2) 147(-10.65,6.4) 148(-10.65,5.6) 149(-10.65,4.8) 150(-10.65,4) 151(-10.65,3.2) 152(-10.65,2.4) 153(-10.65,1.6) 154(-10.65,0.8) 155(-10.65,0) 156(-10.65,-0.8) 157(-10.65,-1.6) 158(-10.65,-2.4) 159(-10.65,-3.2) 160(-10.65,-4) 161(-10.65,-4.8) 162(-10.65,-5.6) 163(-10.65,-6.4) 164(-10.65,-7.2) 165(-10.65,-8) 166(-10.65,-8.8)
  rect 1x1 smd: 67(-8.18,-6.78) 68(8.18,-6.78) 69(8.18,6.78) 70(-8.18,6.78) 167(-10.65,-9.95) 168(10.65,-9.95) 169(10.65,9.95) 170(-10.65,9.95) 180(-6.4,5.162) 181(-6.388,3.688) 182(-6.388,2.213) 183(-6.388,0.737) 184(-6.388,-0.737) 185(-6.388,-2.213) 186(-6.388,-3.688) 187(-6.388,-5.163) 188(-4.563,5.162) 189(-4.563,3.688) 190(-4.563,2.213) 191(-4.563,0.737) 192(-4.563,-0.737) 193(-4.563,-2.213) 194(-4.563,-3.688) 195(-4.563,-5.163) 196(-2.738,5.162) 197(-2.738,3.688) 198(-2.738,2.213) 199(-2.738,0.737) 200(-2.738,-0.737) 201(-2.738,-2.213) 202(-2.738,-3.688) 203(-2.738,-5.163) 204(-0.913,5.162) 205(-0.913,3.688) 206(-0.913,2.213) 207(-0.913,0.737) 208(-0.913,-0.737) 209(-0.913,-2.213) 210(-0.913,-3.688) 211(-0.913,-5.163) 212(0.912,5.162) 213(0.912,3.688) 214(0.912,2.213) 215(0.912,0.737) 216(0.912,-0.737) 217(0.912,-2.213) 218(0.912,-3.688) 219(0.912,-5.163) 220(2.737,5.162) 221(2.737,3.688) 222(2.737,2.213) 223(2.737,0.737) 224(2.737,-0.737) 225(2.737,-2.213) 226(2.737,-3.688) 227(2.737,-5.163) 228(4.562,5.162) 229(4.562,3.688) 230(4.562,2.213) 231(4.562,0.737) 232(4.562,-0.737) 233(4.562,-2.213) 234(4.562,-3.688) 235(4.562,-5.163) 236(6.388,5.162) 237(6.388,3.688) 238(6.388,2.213) 239(6.388,0.737) 240(6.388,-0.737) 241(6.388,-2.213) 242(6.388,-3.688) 243(6.388,-5.163)
  round 0.8 smd: 171(-6.4,-8.48) 172(-5.2,-8.48) 173(-4,-8.48) 174(-2.8,-8.48) 175(-1.6,-8.48) 176(-0.4,-8.48) 177(0.8,-8.48) 178(2,-8.48) 179(3.2,-8.48)
  rect 1.2x3.3 smd: 244(-13.15,6.4) 245(-13.15,0) 246(-13.15,-6.4) 250(13.15,-6.4) 251(13.15,0) 252(13.15,6.4)
  rect 3.3x1.2 smd: 247(-8,-12.65) 248(0,-12.65) 249(8,-12.65) 253(8,12.65) 254(0,12.65) 255(-8,12.65)
  rect 2.2x1.9 smd: 256(-11.05,13) 259(-11.05,-13) 260(11.05,-13) 263(11.05,13)
  rect 1.9x2.2 smd: 257(-13.5,10.55) 258(-13.5,-10.55) 261(13.5,-10.55) 262(13.5,10.55)
Top Overlay:
  lines w0.1: -14.2,-12 -14.2,-13.7 -12.5,-13.7 ; -14.2,-8.85 -14.2,8.85 ; -14.2,12 -14.2,13.7 -12.5,13.7 ; -9.6,-13.7 9.6,-13.7 ; -9.6,13.7 9.6,13.7 ; 12.5,-13.7 14,-13.7 14.2,-13.7 14.2,-12 ; 12.5,13.7 14.2,13.7 14.2,12 ; 14.2,-8.85 14.2,8.85
  lines w0.2: -6.9,-7.6 cw(c-6.8,-7.6) -6.7,-7.6 cw(c-6.8,-7.6) -6.9,-7.6
Mechanical 13:
  lines w0.2: -14.2,-13.7 14.2,-13.7 14.2,13.7 -14.2,13.7 -14.2,-13.7
Mechanical 15:
  lines w0.1: -15.45,-14.95 15.45,-14.95 15.45,14.95 -15.45,14.95 -15.45,-14.95
3D body "WP_SNAP-IN_BASE.stp": height 4.1, standoff 0, extent -14.2,-13.7 14.2,13.7